# Altium footprint library Connector Wire to Board.PcbLib: 47 footprints (part 1 of 3)
Each footprint in its own frame and in the unit in brackets; x right, y up, seen from the top. Pads: shape width x height; smd on the part's side, far side on the other; paste and mask are expansions set on the pad; w line width, h text height; cw(c..) or ccw(c..) is an arc to the next point about the centre after c.
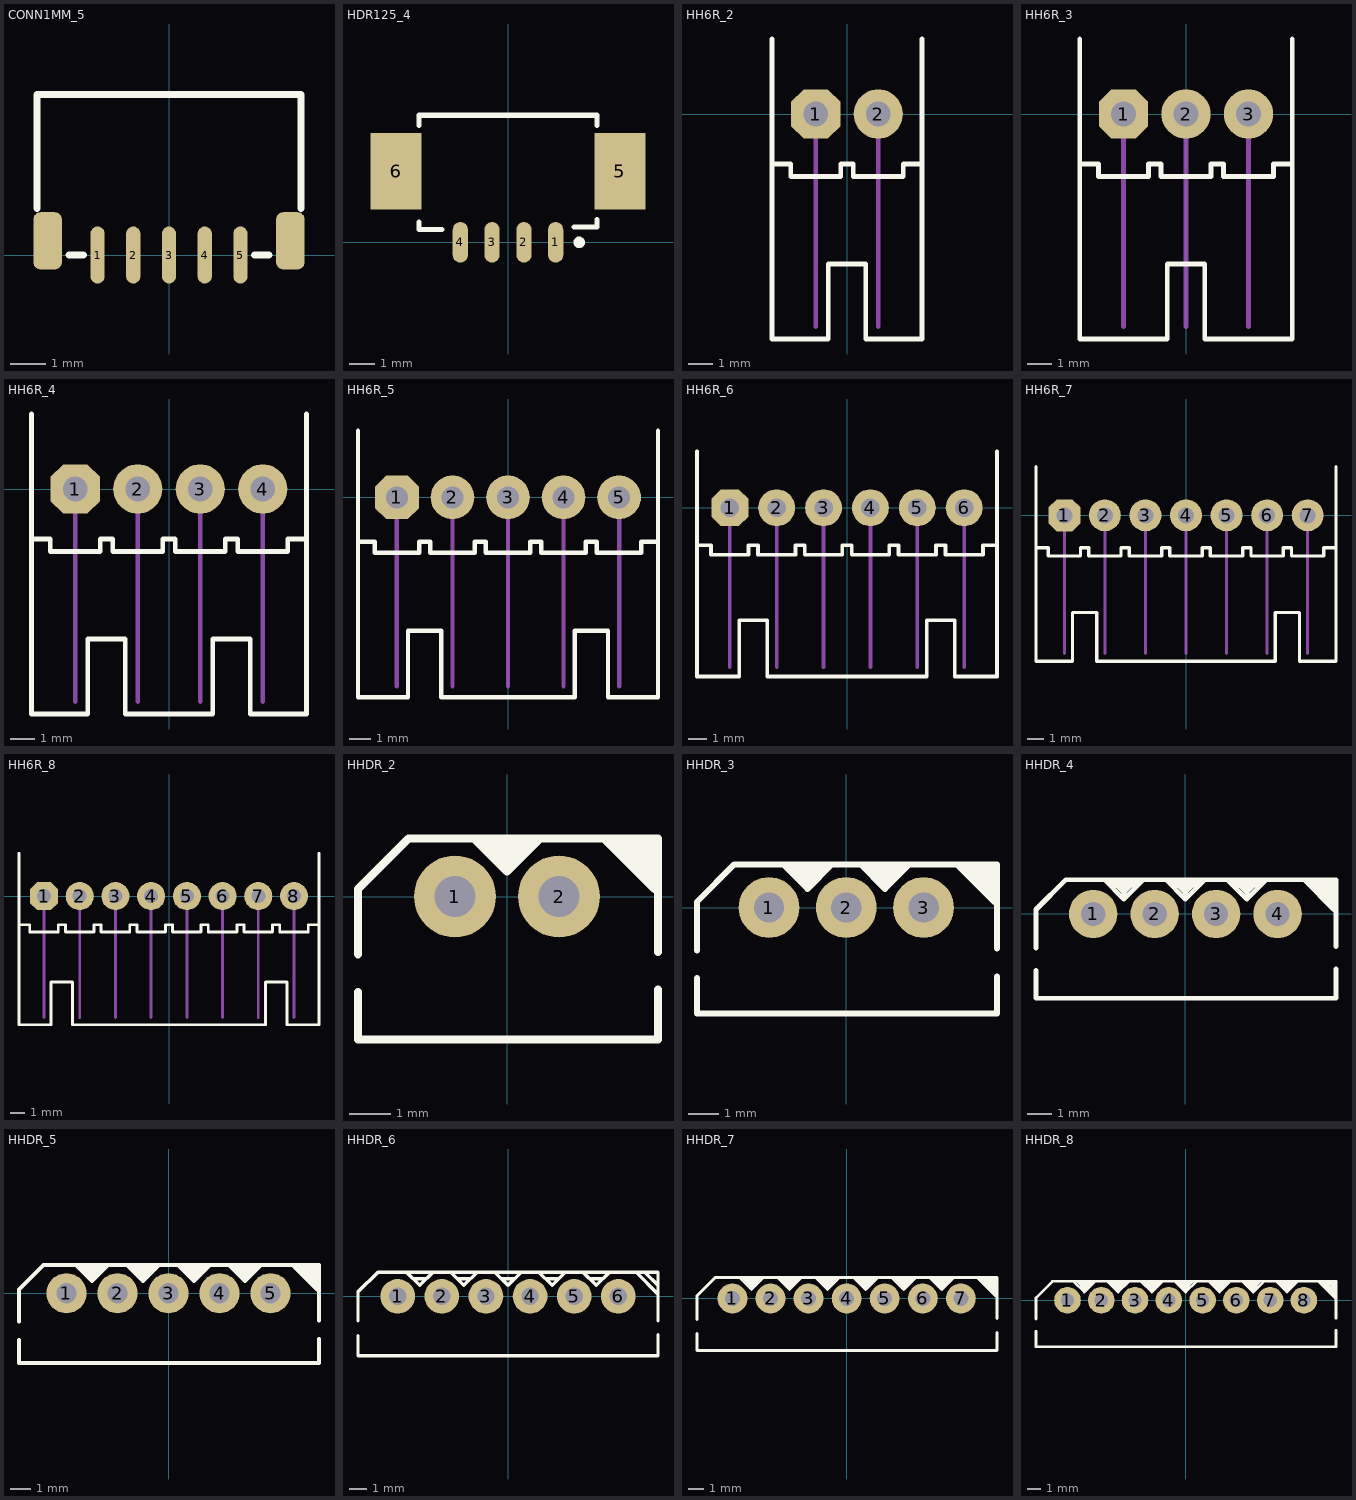
[diagram p0: the footprints below, top view; thin cyan lines are the x and y axes]

## CONN1MM_5 [mm] "CONN, 1mm, SMT RA, TE 1734709-5"
height 3
pads (7):
  oval 0.4x1.6 smd: 1(-2,0) 2(-1,0) 3(0,0) 4(1,0) 5(2,0)
  rrect50% 0.8x1.6 smd: ""(-3.4,0.4) ""(3.4,0.4)
Top Overlay:
  lines w0.2: -3.7,1.3 -3.7,4.5 3.7,4.5 3.7,1.3 ; -2.8,0 -2.4,0 ; 2.4,0 2.8,0
3D body "c-1734709-5-b-3d.stp": height 2.95, standoff 0, extent -3.65,-0.55 3.65,4.4

## HDR125_4 [mm] "CONN, HEADER, 1.25mm PITCH, MOLEX PicoBlade 0532610471"
pads (6):
  oval 0.6x1.6 smd: 1(1.875,0) 2(0.625,0) 3(-0.625,0) 4(-1.875,0)
  rect 2x3 smd: 5(4.4,2.8) 6(-4.4,2.8)
Top Overlay:
  circle w0.254: c2.8,0 r0.1
  lines w0.2: -3.5,0.8 -3.5,0.5 -2.6,0.5 ; -3.5,4.6 -3.5,5 3.5,5 3.5,4.6 ; 2.6,0.6 3.5,0.6 3.5,0.9
Mechanical 29:
  text ".Designator" at 3.6,-2.2 h1.52
3D body "532610471.stp": height 3.39, standoff -0.01, extent -5.075,-0.3 5.075,4.9

## HH6R_2 [mm]
pads (2):
  oct 2x2 hole 1: 1(-1.27,0)
  round 2 hole 1: 2(1.27,0)
Top Overlay:
  lines w0.2: -3.048,3.048 -3.048,-2.032 ; 3.048,3.048 3.048,-2.032 ; -3.048,-2.032 -3.048,-9.144 -0.762,-9.144 -0.762,-6.096 0.762,-6.096 0.762,-9.144 3.048,-9.144 3.048,-2.032 ; -3.048,-2.032 -2.286,-2.032 -2.286,-2.54 -0.254,-2.54 -0.254,-2.032 0.254,-2.032 0.254,-2.54 2.286,-2.54 2.286,-2.032 3.048,-2.032
Mechanical 5:
  lines w0.2: -1.27,-8.636 -1.27,0 ; 1.27,-8.636 1.27,0

## HH6R_3 [mm]
pads (3):
  oct 2x2 hole 1: 1(-2.54,0)
  round 2 hole 1: 2(0,0) 3(2.54,0)
Top Overlay:
  lines w0.2: -4.318,3.048 -4.318,-2.032 ; 4.318,3.048 4.318,-2.032 ; -4.318,-2.032 -3.556,-2.032 -3.556,-2.54 -1.524,-2.54 -1.524,-2.032 -1.016,-2.032 -1.016,-2.54 1.016,-2.54 1.016,-2.032 1.524,-2.032 1.524,-2.54 3.556,-2.54 3.556,-2.032 4.318,-2.032 ; -4.318,-2.032 -4.318,-9.144 -0.762,-9.144 -0.762,-6.096 0.762,-6.096 0.762,-9.144 4.318,-9.144 4.318,-2.032
Mechanical 5:
  lines w0.2: -2.54,-8.636 -2.54,0 ; 0,-8.636 0,0 ; 2.54,-8.636 2.54,0

## HH6R_4 [mm]
pads (4):
  oct 2x2 hole 1: 1(-3.81,0)
  round 2 hole 1: 2(-1.27,0) 3(1.27,0) 4(3.81,0)
Top Overlay:
  lines w0.2: -5.588,3.048 -5.588,-2.032 ; 5.588,3.048 5.588,-2.032 ; -5.588,-2.032 -4.826,-2.032 -4.826,-2.54 -2.794,-2.54 -2.794,-2.032 -2.286,-2.032 -2.286,-2.54 -0.254,-2.54 -0.254,-2.032 0.254,-2.032 0.254,-2.54 2.286,-2.54 2.286,-2.032 2.794,-2.032 2.794,-2.54 4.826,-2.54 4.826,-2.032 5.588,-2.032 ; -5.588,-2.032 -5.588,-9.144 -3.302,-9.144 -3.302,-6.096 -1.778,-6.096 -1.778,-9.144 1.778,-9.144 1.778,-6.096 3.302,-6.096 3.302,-9.144 5.588,-9.144 5.588,-2.032
Mechanical 5:
  lines w0.2: -3.81,-8.636 -3.81,0 ; -1.27,-8.636 -1.27,0 ; 1.27,-8.636 1.27,0 ; 3.81,-8.636 3.81,0

## HH6R_5 [mm]
pads (5):
  oct 2x2 hole 1: 1(-5.08,0)
  round 2 hole 1: 2(-2.54,0) 3(0,0) 4(2.54,0) 5(5.08,0)
Top Overlay:
  lines w0.2: -6.858,3.048 -6.858,-2.032 ; 6.858,3.048 6.858,-2.032 ; -6.858,-2.032 -6.858,-9.144 -4.572,-9.144 -4.572,-6.096 -3.048,-6.096 -3.048,-9.144 3.048,-9.144 3.048,-6.096 4.572,-6.096 4.572,-9.144 6.858,-9.144 6.858,-2.032 ; -6.858,-2.032 -6.096,-2.032 -6.096,-2.54 -4.064,-2.54 -4.064,-2.032 -3.556,-2.032 -3.556,-2.54 -1.524,-2.54 -1.524,-2.032 -1.016,-2.032 -1.016,-2.54 1.016,-2.54 1.016,-2.032 1.524,-2.032 1.524,-2.54 3.556,-2.54 3.556,-2.032 4.064,-2.032 4.064,-2.54 6.096,-2.54 6.096,-2.032 6.858,-2.032
Mechanical 5:
  lines w0.2: -5.08,-8.636 -5.08,0 ; -2.54,-8.636 -2.54,0 ; 0,-8.636 0,0 ; 2.54,-8.636 2.54,0 ; 5.08,-8.636 5.08,0

## HH6R_6 [mm]
pads (6):
  oct 2x2 hole 1: 1(-6.35,0)
  round 2 hole 1: 2(-3.81,0) 3(-1.27,0) 4(1.27,0) 5(3.81,0) 6(6.35,0)
Top Overlay:
  lines w0.2: -8.128,3.048 -8.128,-2.032 ; 8.128,3.048 8.128,-2.032 ; -8.128,-2.032 -7.366,-2.032 -7.366,-2.54 -5.334,-2.54 -5.334,-2.032 -4.826,-2.032 -4.826,-2.54 -2.794,-2.54 -2.794,-2.032 -2.286,-2.032 -2.286,-2.54 -0.254,-2.54 -0.254,-2.032 0.254,-2.032 0.254,-2.54 2.286,-2.54 2.286,-2.032 2.794,-2.032 2.794,-2.54 4.826,-2.54 4.826,-2.032 5.334,-2.032 5.334,-2.54 7.366,-2.54 7.366,-2.032 8.128,-2.032 ; -8.128,-2.032 -8.128,-9.144 -5.842,-9.144 -5.842,-6.096 -4.318,-6.096 -4.318,-9.144 4.318,-9.144 4.318,-6.096 5.842,-6.096 5.842,-9.144 8.128,-9.144 8.128,-2.032
Mechanical 5:
  lines w0.2: -6.35,-8.636 -6.35,0 ; -3.81,-8.636 -3.81,0 ; -1.27,-8.636 -1.27,0 ; 1.27,-8.636 1.27,0 ; 3.81,-8.636 3.81,0 ; 6.35,-8.636 6.35,0

## HH6R_7 [mm]
pads (7):
  oct 2x2 hole 1: 1(-7.62,0)
  round 2 hole 1: 2(-5.08,0) 3(-2.54,0) 4(0,0) 5(2.54,0) 6(5.08,0) 7(7.62,0)
Top Overlay:
  lines w0.2: -9.398,3.048 -9.398,-2.032 ; 9.398,3.048 9.398,-2.032 ; -9.398,-2.032 -9.398,-9.144 -7.112,-9.144 -7.112,-6.096 -5.588,-6.096 -5.588,-9.144 5.588,-9.144 5.588,-6.096 7.112,-6.096 7.112,-9.144 9.398,-9.144 9.398,-2.032 ; -9.398,-2.032 -8.636,-2.032 -8.636,-2.54 -6.604,-2.54 -6.604,-2.032 -6.096,-2.032 -6.096,-2.54 -4.064,-2.54 -4.064,-2.032 -3.556,-2.032 -3.556,-2.54 -1.524,-2.54 -1.524,-2.032 -1.016,-2.032 -1.016,-2.54 1.016,-2.54 1.016,-2.032 1.524,-2.032 1.524,-2.54 3.556,-2.54 3.556,-2.032 4.064,-2.032 4.064,-2.54 6.096,-2.54 6.096,-2.032 6.604,-2.032 6.604,-2.54 8.636,-2.54 8.636,-2.032 9.398,-2.032
Mechanical 5:
  lines w0.2: -7.62,-8.636 -7.62,0 ; -5.08,-8.636 -5.08,0 ; -2.54,-8.636 -2.54,0 ; 0,-8.636 0,0 ; 2.54,-8.636 2.54,0 ; 5.08,-8.636 5.08,0 ; 7.62,-8.636 7.62,0

## HH6R_8 [mm]
pads (8):
  oct 2x2 hole 1: 1(-8.89,0)
  round 2 hole 1: 2(-6.35,0) 3(-3.81,0) 4(-1.27,0) 5(1.27,0) 6(3.81,0) 7(6.35,0) 8(8.89,0)
Top Overlay:
  lines w0.2: -10.668,3.048 -10.668,-2.032 ; 10.668,3.048 10.668,-2.032 ; -10.668,-2.032 -9.906,-2.032 -9.906,-2.54 -7.874,-2.54 -7.874,-2.032 -7.366,-2.032 -7.366,-2.54 -5.334,-2.54 -5.334,-2.032 -4.826,-2.032 -4.826,-2.54 -2.794,-2.54 -2.794,-2.032 -2.286,-2.032 -2.286,-2.54 -0.254,-2.54 -0.254,-2.032 0.254,-2.032 0.254,-2.54 2.286,-2.54 2.286,-2.032 2.794,-2.032 2.794,-2.54 4.826,-2.54 4.826,-2.032 5.334,-2.032 5.334,-2.54 7.366,-2.54 7.366,-2.032 7.874,-2.032 7.874,-2.54 9.906,-2.54 9.906,-2.032 10.668,-2.032 ; -10.668,-2.032 -10.668,-9.144 -8.382,-9.144 -8.382,-6.096 -6.858,-6.096 -6.858,-9.144 6.858,-9.144 6.858,-6.096 8.382,-6.096 8.382,-9.144 10.668,-9.144 10.668,-2.032
Mechanical 5:
  lines w0.2: -8.89,-8.636 -8.89,0 ; -6.35,-8.636 -6.35,0 ; -3.81,-8.636 -3.81,0 ; -1.27,-8.636 -1.27,0 ; 1.27,-8.636 1.27,0 ; 3.81,-8.636 3.81,0 ; 6.35,-8.636 6.35,0 ; 8.89,-8.636 8.89,0

## HHDR_2 [mm]
pads (2):
  round 2 hole 1: 1(-1.27,0) 2(1.27,0)
Top Overlay:
  lines w0.2: -3.635,-2.325 -3.635,-3.485 3.683,-3.485 3.683,-2.269 ; -3.635,-1.405 -3.635,0.185 -2.405,1.415 3.683,1.415 3.683,-1.349 ; -0.8,1.415 0,0.615 ; -0.526,1.415 0,0.889 0.526,1.415 ; -0.272,1.415 0,1.143 0.272,1.415 ; 0,1.415 0,0.615 ; 0.8,1.415 0,0.615 ; 2.365,1.415 3.595,0.185 ; 2.579,1.415 3.595,0.399 3.595,0.653 2.833,1.415 3.087,1.415 3.595,0.907 3.595,1.161 3.341,1.415

## HHDR_3 [mm]
pads (3):
  round 2 hole 1: 1(-2.54,0) 2(0,0) 3(2.54,0)
Top Overlay:
  lines w0.2: -4.905,-2.325 -4.905,-3.485 4.953,-3.485 4.953,-2.269 ; -4.905,-1.405 -4.905,0.185 -3.675,1.415 4.953,1.415 4.953,-1.349 ; -2.07,1.415 -1.27,0.615 ; -1.796,1.415 -1.27,0.889 -0.744,1.415 ; -1.542,1.415 -1.27,1.143 -0.998,1.415 ; -1.27,1.415 -1.27,0.615 ; -0.47,1.415 -1.27,0.615 ; 0.47,1.415 1.27,0.615 ; 0.744,1.415 1.27,0.889 1.796,1.415 ; 0.998,1.415 1.27,1.143 1.542,1.415 ; 1.27,1.415 1.27,0.615 ; 2.07,1.415 1.27,0.615 ; 3.635,1.415 4.865,0.185 ; 3.849,1.415 4.865,0.399 4.865,0.653 4.103,1.415 4.357,1.415 4.865,0.907 4.865,1.161 4.611,1.415

## HHDR_4 [mm]
pads (4):
  round 2 hole 1: 1(-3.81,0) 2(-1.27,0) 3(1.27,0) 4(3.81,0)
Top Overlay:
  lines w0.2: -6.175,-2.325 -6.175,-3.485 6.223,-3.485 6.223,-2.269 ; -6.175,-1.405 -6.175,0.185 -4.945,1.415 6.223,1.415 6.223,-1.349 ; -3.34,1.415 -2.54,0.615 ; -3.066,1.415 -2.54,0.889 -2.014,1.415 ; -2.812,1.415 -2.54,1.143 -2.268,1.415 ; -2.54,1.415 -2.54,0.615 ; -1.74,1.415 -2.54,0.615 ; -0.8,1.415 0,0.615 ; -0.526,1.415 0,0.889 0.526,1.415 ; -0.272,1.415 0,1.143 0.272,1.415 ; 0,1.415 0,0.615 ; 0.8,1.415 0,0.615 ; 1.74,1.415 2.54,0.615 ; 2.014,1.415 2.54,0.889 3.066,1.415 ; 2.268,1.415 2.54,1.143 2.812,1.415 ; 2.54,1.415 2.54,0.615 ; 3.34,1.415 2.54,0.615 ; 4.905,1.415 6.135,0.185 ; 5.119,1.415 6.135,0.399 6.135,0.653 5.373,1.415 5.627,1.415 6.135,0.907 6.135,1.161 5.881,1.415

## HHDR_5 [mm]
pads (5):
  round 2 hole 1: 1(-5.08,0) 2(-2.54,0) 3(0,0) 4(2.54,0) 5(5.08,0)
Top Overlay:
  lines w0.2: -7.445,-2.325 -7.445,-3.485 7.493,-3.485 7.493,-2.269 ; -7.445,-1.405 -7.445,0.185 -6.215,1.415 7.493,1.415 7.493,-1.349 ; -4.61,1.415 -3.81,0.615 ; -4.336,1.415 -3.81,0.889 -3.284,1.415 ; -4.082,1.415 -3.81,1.143 -3.538,1.415 ; -3.81,1.415 -3.81,0.615 ; -3.01,1.415 -3.81,0.615 ; -2.07,1.415 -1.27,0.615 ; -1.796,1.415 -1.27,0.889 -0.744,1.415 ; -1.542,1.415 -1.27,1.143 -0.998,1.415 ; -1.27,1.415 -1.27,0.615 ; -0.47,1.415 -1.27,0.615 ; 0.47,1.415 1.27,0.615 ; 0.744,1.415 1.27,0.889 1.796,1.415 ; 0.998,1.415 1.27,1.143 1.542,1.415 ; 1.27,1.415 1.27,0.615 ; 2.07,1.415 1.27,0.615 ; 3.01,1.415 3.81,0.615 ; 3.284,1.415 3.81,0.889 4.336,1.415 ; 3.538,1.415 3.81,1.143 4.082,1.415 ; 3.81,1.415 3.81,0.615 ; 4.61,1.415 3.81,0.615 ; 6.175,1.415 7.405,0.185 ; 6.389,1.415 7.405,0.399 7.405,0.653 6.643,1.415 6.897,1.415 7.405,0.907 7.405,1.161 7.151,1.415

## HHDR_6 [mm]
pads (6):
  round 2 hole 1: 1(-6.35,0) 2(-3.81,0) 3(-1.27,0) 4(1.27,0) 5(3.81,0) 6(6.35,0)
Top Overlay:
  lines w0.2: -8.636,-2.269 -8.636,-3.429 8.636,-3.429 8.636,-2.213 ; -8.636,-1.397 -8.636,0.254 -7.485,1.397 8.636,1.397 8.636,-1.397 ; -5.842,1.397 -5.08,0.635 -4.318,1.397 ; -5.461,1.016 -4.699,1.016 ; -3.302,1.397 -2.54,0.635 -1.778,1.397 ; -2.921,1.016 -2.159,1.016 ; -0.762,1.397 0,0.635 0.762,1.397 ; -0.381,1.016 0.381,1.016 ; 1.778,1.397 2.54,0.635 3.302,1.397 ; 2.159,1.016 2.921,1.016 ; 4.318,1.397 5.08,0.635 5.842,1.397 ; 4.699,1.016 5.461,1.016 ; 7.406,1.357 8.636,0.127 ; 7.874,1.397 8.636,0.635

## HHDR_7 [mm]
pads (7):
  round 2 hole 1: 1(-7.62,0) 2(-5.08,0) 3(-2.54,0) 4(0,0) 5(2.54,0) 6(5.08,0) 7(7.62,0)
Top Overlay:
  lines w0.2: -9.985,-2.325 -9.985,-3.485 10.033,-3.485 10.033,-2.269 ; -9.985,-1.405 -9.985,0.185 -8.755,1.415 10.033,1.415 10.033,-1.349 ; -7.15,1.415 -6.35,0.615 ; -6.876,1.415 -6.35,0.889 -5.824,1.415 ; -6.622,1.415 -6.35,1.143 -6.078,1.415 ; -6.35,1.415 -6.35,0.615 ; -5.55,1.415 -6.35,0.615 ; -4.61,1.415 -3.81,0.615 ; -4.336,1.415 -3.81,0.889 -3.284,1.415 ; -4.082,1.415 -3.81,1.143 -3.538,1.415 ; -3.81,1.415 -3.81,0.615 ; -3.01,1.415 -3.81,0.615 ; -2.07,1.415 -1.27,0.615 ; -1.796,1.415 -1.27,0.889 -0.744,1.415 ; -1.542,1.415 -1.27,1.143 -0.998,1.415 ; -1.27,1.415 -1.27,0.615 ; -0.47,1.415 -1.27,0.615 ; 0.47,1.415 1.27,0.615 ; 0.744,1.415 1.27,0.889 1.796,1.415 ; 0.998,1.415 1.27,1.143 1.542,1.415 ; 1.27,1.415 1.27,0.615 ; 2.07,1.415 1.27,0.615 ; 3.01,1.415 3.81,0.615 ; 3.284,1.415 3.81,0.889 4.336,1.415 ; 3.538,1.415 3.81,1.143 4.082,1.415 ; 3.81,1.415 3.81,0.615 ; 4.61,1.415 3.81,0.615 ; 5.55,1.415 6.35,0.615 ; 5.824,1.415 6.35,0.889 6.876,1.415 ; 6.078,1.415 6.35,1.143 6.622,1.415 ; 6.35,1.415 6.35,0.615 ; 7.15,1.415 6.35,0.615 ; 8.715,1.415 9.945,0.185 ; 8.929,1.415 9.945,0.399 9.945,0.653 9.183,1.415 9.437,1.415 9.945,0.907 9.945,1.161 9.691,1.415

## HHDR_8 [mm]
pads (8):
  round 2 hole 1: 1(-8.89,0) 2(-6.35,0) 3(-3.81,0) 4(-1.27,0) 5(1.27,0) 6(3.81,0) 7(6.35,0) 8(8.89,0)
Top Overlay:
  lines w0.2: -11.255,-2.325 -11.255,-3.485 11.303,-3.485 11.303,-2.269 ; -11.255,-1.405 -11.255,0.185 -10.025,1.415 11.303,1.415 11.303,-1.349 ; -8.42,1.415 -7.62,0.615 ; -8.146,1.415 -7.62,0.889 -7.094,1.415 ; -7.892,1.415 -7.62,1.143 -7.348,1.415 ; -7.62,1.415 -7.62,0.615 ; -6.82,1.415 -7.62,0.615 ; -5.88,1.415 -5.08,0.615 ; -5.606,1.415 -5.08,0.889 -4.554,1.415 ; -5.352,1.415 -5.08,1.143 -4.808,1.415 ; -5.08,1.415 -5.08,0.615 ; -4.28,1.415 -5.08,0.615 ; -3.34,1.415 -2.54,0.615 ; -3.066,1.415 -2.54,0.889 -2.014,1.415 ; -2.812,1.415 -2.54,1.143 -2.268,1.415 ; -2.54,1.415 -2.54,0.615 ; -1.74,1.415 -2.54,0.615 ; -0.8,1.415 0,0.615 ; -0.526,1.415 0,0.889 0.526,1.415 ; -0.272,1.415 0,1.143 0.272,1.415 ; 0,1.415 0,0.615 ; 0.8,1.415 0,0.615 ; 1.74,1.415 2.54,0.615 ; 2.014,1.415 2.54,0.889 3.066,1.415 ; 2.268,1.415 2.54,1.143 2.812,1.415 ; 2.54,1.415 2.54,0.615 ; 3.34,1.415 2.54,0.615 ; 4.28,1.415 5.08,0.615 ; 4.554,1.415 5.08,0.889 5.606,1.415 ; 4.808,1.415 5.08,1.143 5.352,1.415 ; 5.08,1.415 5.08,0.615 ; 5.88,1.415 5.08,0.615 ; 6.82,1.415 7.62,0.615 ; 7.094,1.415 7.62,0.889 8.146,1.415 ; 7.348,1.415 7.62,1.143 7.892,1.415 ; 7.62,1.415 7.62,0.615 ; 8.42,1.415 7.62,0.615 ; 9.985,1.415 11.215,0.185 ; 10.199,1.415 11.215,0.399 11.215,0.653 10.453,1.415 10.707,1.415 11.215,0.907 11.215,1.161 10.961,1.415